# EAGLE library part TPA2000D1TPWRQ1 (library FSAE Eletric)
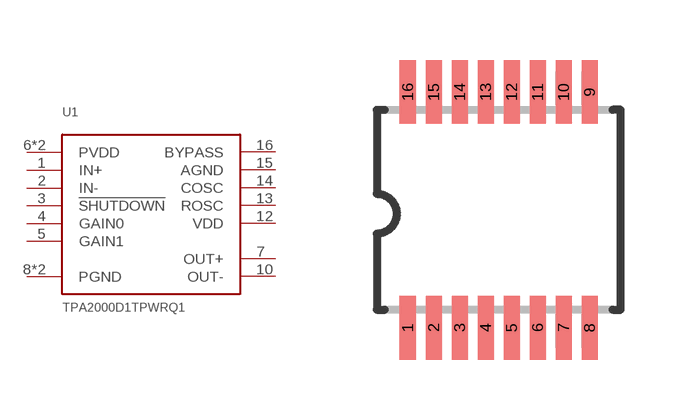
[diagram p56: symbol with the pads of TSSOP-16; footprint TSSOP-16]

Designator prefix U1

## TPA2000D1TPWRQ1  [TSSOP-16]
1  IN+
2  IN-
3  !SHUTDOWN
4  GAIN0
5  GAIN1
6  PVDD
7  OUT+
8  PGND
9  PGND
10  OUT-
11  PVDD
12  VDD
13  ROSC
14  COSC
15  AGND
16  BYPASS

## Footprint TSSOP-16 (pad centres in mm)
smd 0.4 x 1.6: 1 -2.225,-2.85; 2 -1.575,-2.85; 3 -0.925,-2.85; 4 -0.275,-2.85; 5 0.375,-2.85; 6 1.025,-2.85; 7 1.675,-2.85; 8 2.325,-2.85; 9 2.325,3.05; 10 1.675,3.05; 11 1.025,3.05; 12 0.375,3.05; 13 -0.275,3.05; 14 -0.925,3.05; 15 -1.575,3.05; 16 -2.225,3.05